# Altium footprint library KF2EDG3.81-12.PcbLib: 1 footprints
Each footprint in its own frame and in the unit in brackets; x right, y up, seen from the top. Pads: shape width x height; smd on the part's side, far side on the other; paste and mask are expansions set on the pad; w line width, h text height; cw(c..) or ccw(c..) is an arc to the next point about the centre after c.
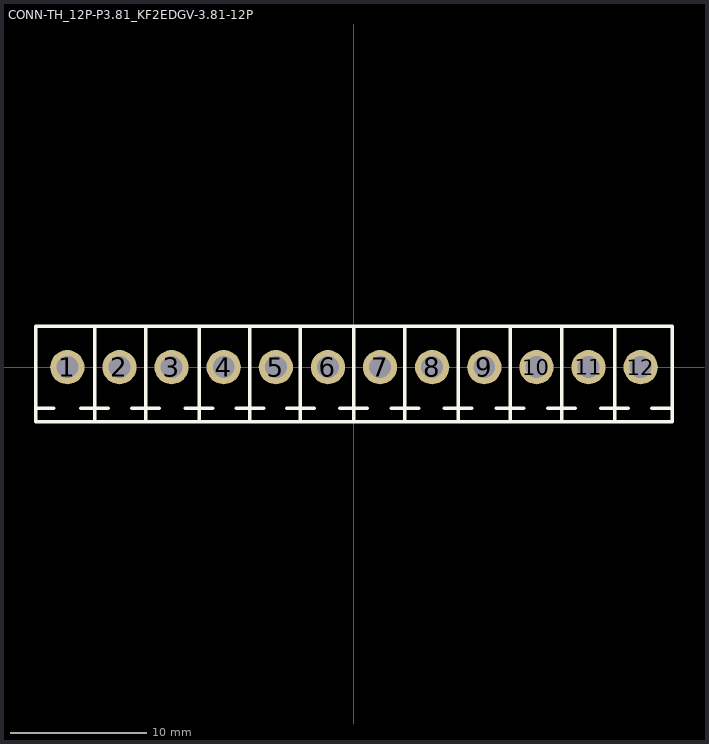
[diagram p0: the footprint, top view; thin cyan lines are the x and y axes]

## CONN-TH_12P-P3.81_KF2EDGV-3.81-12P [mm]
pads (12):
  round 2.5 hole 1.6: 1(-20.955,0) 2(-17.145,0) 3(-13.335,0) 4(-9.525,0) 5(-5.715,0) 6(-1.905,0) 7(1.905,0) 8(5.715,0) 9(9.525,0) 10(13.335,0) 11(17.145,0) 12(20.955,0)
Top Overlay:
  lines w0.254: -23.26,-3 -21.955,-3 ; -19.975,-3 -17.965,-3 ; -18.955,-4 -18.955,3 ; -16.24,-3 -14.23,-3 ; -15.22,-4 -15.22,3 ; -12.34,-3 -10.33,-3 ; -11.32,-4 -11.32,3 ; -8.625,-3 -6.615,-3 ; -7.62,-4 -7.62,3 ; -4.925,-3 -2.915,-3 ; -3.935,-4 -3.935,3 ; -1.025,-3 0.985,-3 ; -0.035,-4 -0.035,3 ; 2.71,-3 4.72,-3 ; 3.7,-4 3.7,3 ; 6.6,-3 8.61,-3 ; 7.62,-4 7.62,3 ; 10.415,-3 12.425,-3 ; 11.435,-4 11.435,3 ; 14.15,-3 16.16,-3 ; 15.17,-4 15.17,3 ; 18.05,-3 20.06,-3 ; 19.07,-4 19.07,3 ; 21.75,-3 23.26,-3 ; -23.26,-4 -23.26,3 23.26,3 23.26,-4 -23.26,-4